# EAGLE library part 6N137S-TA1 (library 6N137S-TA1)
High Speed Optocouplers High Speed 10MBd LogicGate Output Source: Datasheet <http://www.mouser.com/ds/2/239/S_110_6N137 20140411-596065.pdf>
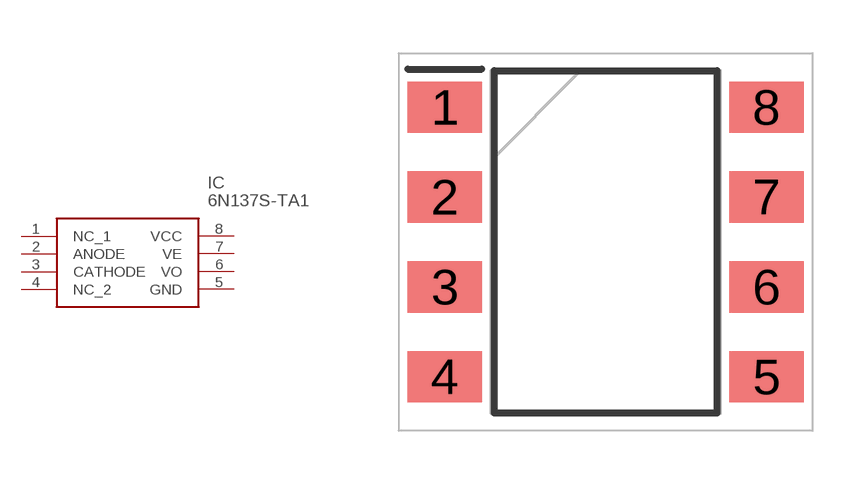
[diagram p0: symbol with the pads of SOP254P1016X400-8N; footprint SOP254P1016X400-8N]

Designator prefix IC

## 6N137S-TA1 (Arrow_Part_Number: 6N137S-TA1; Arrow_Price-Stock: https://www.arrow.com/en/products/6n137s-ta1/lite-on-technology; Description: High Speed Optocouplers High Speed 10MBd LogicGate Output; Height: 4mm; Manufacturer_Name: Lite-On; Manufacturer_Part_Number: 6N137S-TA1; Mouser_Part_Number: 859-6N137STA1; Mouser_Price-Stock: https://www.mouser.co.uk/ProductDetail/Lite-On/6N137S-TA1?qs=PByDJ0nQNwrChwHSrgNi1w%3D%3D)  [SOP254P1016X400-8N]
1  NC_1
2  ANODE
3  CATHODE
4  NC_2
5  GND
6  VO
7  VE
8  VCC

## Footprint SOP254P1016X400-8N (pad centres in mm)
6N136S
smd 2.1 x 1.45: 1 -4.55,3.81; 2 -4.55,1.27; 3 -4.55,-1.27; 4 -4.55,-3.81; 5 4.55,-3.81; 6 4.55,-1.27; 7 4.55,1.27; 8 4.55,3.81